# Altium schematic symbol library SCH - MICROCONTROLLER - ST STSPIN32F0.SchLib: 1 symbol
Pins are listed as number, name and electrical type; pins without a type are passive.

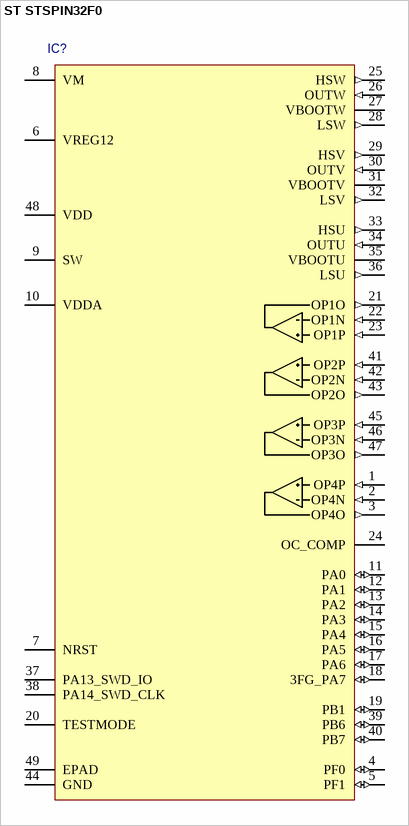
[diagram p0: symbol ST STSPIN32F0]

## ST STSPIN32F0
designator IC?
pins: 1 OP4P (in), 2 OP4N (in), 3 OP4O (out), 4 PF0 (io), 5 PF1 (io), 6 VREG12 (power), 7 NRST, 8 VM (power), 9 SW (power), 10 VDDA (power), 11 PA0 (io), 12 PA1 (io), 13 PA2 (io), 14 PA3 (io), 15 PA4 (io), 16 PA5 (io), 17 PA6 (io), 18 3FG_PA7 (io), 19 PB1 (io), 20 TESTMODE, 21 OP1O (out), 22 OP1N (in), 23 OP1P (in), 24 OC_COMP, 25 HSW (out), 26 OUTW (in), 27 VBOOTW, 28 LSW (out), 29 HSV (out), 30 OUTV (in), 31 VBOOTV, 32 LSV (out), 33 HSU (out), 34 OUTU (in), 35 VBOOTU, 36 LSU (out), 37 PA13_SWD_IO, 38 PA14_SWD_CLK, 39 PB6 (io), 40 PB7 (io), 41 OP2P (in), 42 OP2N (in), 43 OP2O (out), 44 GND (power), 45 OP3P (in), 46 OP3N (in), 47 OP3O (out), 48 VDD (power), 49 EPAD (power)